# Altium footprint library eecs5x.PcbLib: 161 footprints (part 1 of 11)
Each footprint in its own frame and in the unit in brackets; x right, y up, seen from the top. Pads: shape width x height; smd on the part's side, far side on the other; paste and mask are expansions set on the pad; w line width, h text height; cw(c..) or ccw(c..) is an arc to the next point about the centre after c.
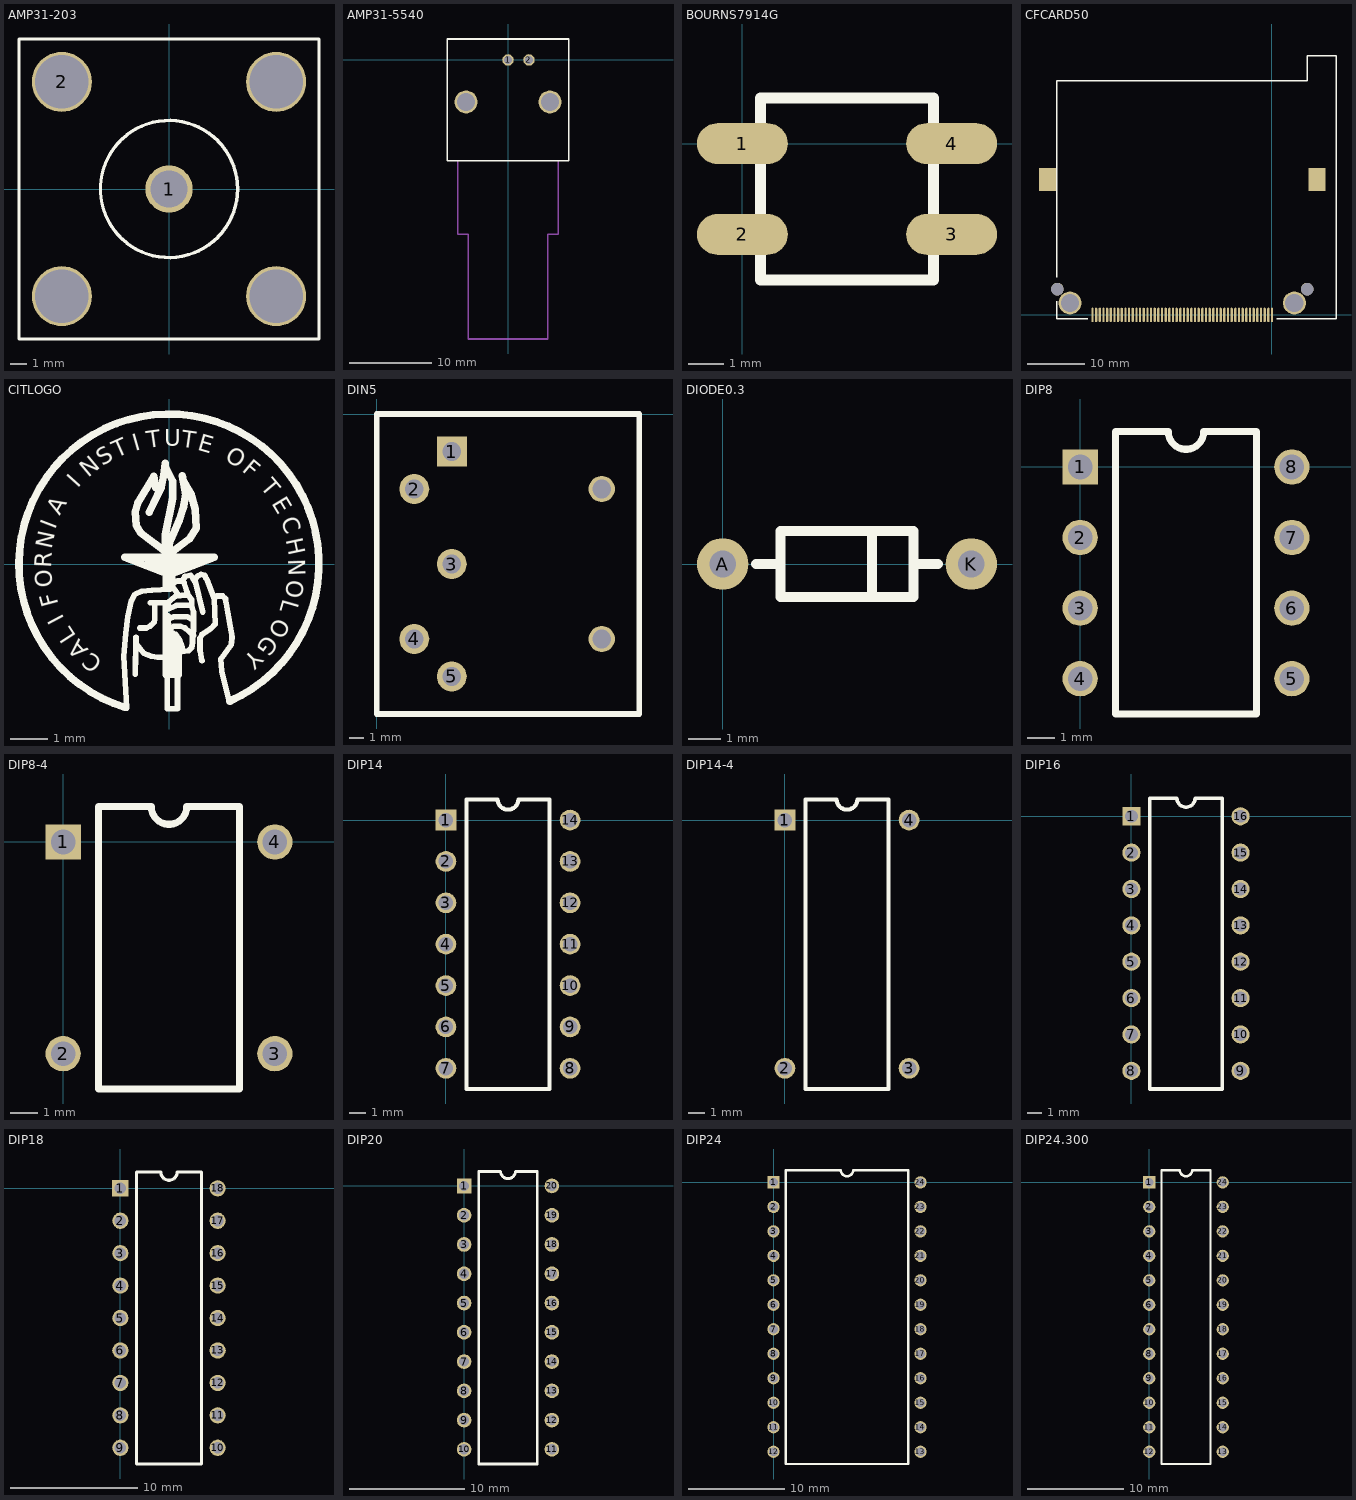
[diagram p0: the footprints below, top view; thin cyan lines are the x and y axes]

## AMP31-203 [mil]
pads (5):
  round 110 hole 86: 1(0,0)
  round 140 hole 125: 2(-250,250) ""(-250,-250) ""(250,-250) ""(250,250)
Top Overlay:
  circle w8: c0,0 r160
  lines w8: -350,-350 350,-350 350,350 -350,350 -350,-350

## AMP31-5540 [mil]
pads (4):
  round 55 hole 38: 1(0,0) 2(100,0)
  round 110 hole 86: ""(-200,-200) ""(200,-200)
Top Overlay:
  lines w8: -290,-480 -290,100 290,100 290,-480 -290,-480
Mechanical 1:
  lines w8: -240,-480 -240,-830 -190,-830 -190,-1330 190,-1330 190,-830 240,-830 240,-480

## BOURNS7914G [mil]
pads (4):
  oval 100x45 smd: 1(0,0) 2(0,-100) 3(230,-100) 4(230,0)
Top Overlay:
  lines w12: 20,-150 20,50 210,50 210,-150 20,-150

## CFCARD50 [mm]
pads (56):
  oval 0.4x2.5 smd: 1(0,0) 2(-1.27,0) 3(-2.54,0) 4(-3.81,0) 5(-5.08,0) 6(-6.35,0) 7(-7.62,0) 8(-8.89,0) 9(-10.16,0) 10(-11.43,0) 11(-12.7,0) 12(-13.97,0) 13(-15.24,0) 14(-16.51,0) 15(-17.78,0) 16(-19.05,0) 17(-20.32,0) 18(-21.59,0) 19(-22.86,0) 20(-24.13,0) 21(-25.4,0) 22(-26.67,0) 23(-27.94,0) 24(-29.21,0) 25(-30.48,0) 26(-0.635,0) 27(-1.905,0) 28(-3.175,0) 29(-4.445,0) 30(-5.715,0) 31(-6.985,0) 32(-8.255,0) 33(-9.525,0) 34(-10.795,0) 35(-12.065,0) 36(-13.335,0) 37(-14.605,0) 38(-15.875,0) 39(-17.145,0) 40(-18.415,0) 41(-19.685,0) 42(-20.955,0) 43(-22.225,0) 44(-23.495,0) 45(-24.765,0) 46(-26.035,0) 47(-27.305,0) 48(-28.575,0) 49(-29.845,0) 50(-31.115,0)
  rect 3x4 smd: ""(-38.9,23.5) ""(7.8,23.5)
  round 2.2 hole 2.184: ""(-37.2,4.47) ""(6.1,4.47)
  round 4 hole 3.175: ""(-35.01,2.07) ""(3.89,2.07)
Top Overlay:
  lines w0.254: -37.3,2.4 -37.3,-0.7 -31.9,-0.7 ; -37.3,6.5 -37.3,40.6 6.1,40.6 6.1,44.9 11.1,44.9 11.1,-0.7 0.8,-0.7

## CITLOGO [mil]
Top Overlay:
  lines w6: -45,-153 -48,-98 -46,-74 -44,-56 -40,-39 -36,-32 -29,-29 -18,-28 1,-27 ; -36,-117 -35,-78 ; -35,-85 -27,-95 -19,-98 -12,-99 -3,-99 ; -31,-68 -24,-68 -20,-66 -16,-62 -15,-59 -15,-42 ; -20,-41 -3,-41 ; -4,-60 5,-56 19,-56 26,-60 ; -4,-44 -4,-118 11,-118 11,-86 ; -3,-49 8,-44 23,-44 ; -2,-120 -2,-154 9,-154 9,-119 ; -2,-71 5,-66 12,-66 17,-68 26,-76 ; -1,-62 0,-67 ; -1,-56 -1,-55 ; -1,-45 -1,-41 7,-34 19,-33 ; 0,-80 4,-86 ; 1,-76 9,-85 ; 2,-72 7,-75 11,-80 14,-89 ; 5,-26 10,-33 ; 5,-20 9,-18 14,-18 16,-15 17,-13 23,-12 27,-18 30,-13 34,-11 38,-12 39,-15 ; 13,-93 21,-92 24,-89 25,-83 25,-77 26,-70 26,-51 24,-45 24,-38 20,-32 16,-20 ; 28,-18 36,-51 ; 35,-103 33,-92 33,-79 35,-75 44,-69 49,-64 48,-37 40,-16 ; 49,-36 51,-34 ; 53,-34 57,-34 60,-37 61,-42 65,-66 67,-78 66,-86 55,-101 56,-114 64,-146
  lines w8: -46.61,-152.45 cw(c0,0) 64.84,-145.63 ; -22,1 25,1 ; -21,55 -8,82 -5,98 -4,107 ; -14,81 -16,93 -33,65 -36,55 -35,41 -30,33 -1,11 ; -13,-5 12,-5 ; -4,15 -4,31 4,70 4,88 -4,104 ; -3,-9 -3,-25 3,-25 3,-12 ; -2,-86 11,-86 ; 0,-11 -47,7 48,7 1,-11 ; 0,15 1,24 11,47 15,59 18,74 14,94 ; 1,11 22,27 29,38 28,58 23,75 15,89 ; 3,-114 3,-86 ; 6,-113 6,-86
  text "T" at -22.35,123.09 h18
  text "U" at -5,125 h18
  text "T" at 12.45,124.48 h18
  text "E" at 29.65,121.54 h18
  text "F" at 76.52,98.97 h18
  text "T" at -55.41,112.16 h18
  text "S" at -70.48,103.36 h18
  text "O" at 113.45,-56.12 h18
  text "O" at 125.54,-16.13 h18
  text "G" at 103,-74 h18
  text "Y" at 89,-90 h18
  text "T" at 96.7,81.66 h18
  text "E" at 108.86,64.58 h18
  text "C" at 118.02,45.73 h18
  text "H" at 123.95,25.62 h18
  text "N" at 126.48,4.82 h18
  text "L" at 121.16,-36.63 h18
  text "O" at 58,111 h18
  text "I" at -36,120 h18
  text "N" at -86,91 h18
  text "I" at -97,80 h18
  text "A" at -84.68,-91.35 h18
  text "N" at -124.49,15.23 h18
  text "R" at -125.18,-4.42 h18
  text "O" at -122.79,-23.94 h18
  text "F" at -117.38,-42.84 h18
  text "L" at -98.09,-76.97 h18
  text "C" at -69.19,-103.46 h18
  text "I" at -121,36 h18
  text "A" at -116,51 h18
  text "I" at -111,-58 h18

## DIN5 [mil]
pads (7):
  rect 80x80 hole 50: 1(200,-100)
  round 80 hole 50: 2(100,-200) 3(200,-400) 4(100,-600) 5(200,-700)
  round 70 hole 50: ""(600,-600) ""(600,-200)
Top Overlay:
  lines w15: 0,-800 0,0 700,0 700,-800 0,-800

## DIODE0.3 [mil]
pads (2):
  round 62 hole 32: A(0,0) K(300,0)
Top Overlay:
  lines w12: 40,0 70,0 ; 180,-40 180,40 ; 230,0 260,0 ; 70,-40 70,40 230,40 230,-40 70,-40

## DIP8 [mil]
pads (8):
  rect 50x50 hole 35: 1(0,0)
  round 50 hole 35: 2(0,-100) 3(0,-200) 4(0,-300) 5(300,-300) 6(300,-200) 7(300,-100) 8(300,0)
Top Overlay:
  lines w10: 50,-350 50,50 125,50 ccw(c150,50) 175,50 250,50 250,-350 50,-350

## DIP8-4 [mil]
pads (4):
  rect 50x50 hole 35: 1(0,0)
  round 50 hole 35: 2(0,-300) 3(300,-300) 4(300,0)
Top Overlay:
  lines w10: 50,-350 50,50 125,50 ccw(c150,50) 175,50 250,50 250,-350 50,-350

## DIP14 [mil]
pads (14):
  rect 50x50 hole 35: 1(0,0)
  round 50 hole 35: 2(0,-100) 3(0,-200) 4(0,-300) 5(0,-400) 6(0,-500) 7(0,-600) 8(300,-600) 9(300,-500) 10(300,-400) 11(300,-300) 12(300,-200) 13(300,-100) 14(300,0)
Top Overlay:
  lines w10: 50,-650 50,50 125,50 ccw(c150,50) 175,50 250,50 250,-650 50,-650

## DIP14-4 [mil]
pads (4):
  rect 50x50 hole 35: 1(0,0)
  round 50 hole 35: 2(0,-600) 3(300,-600) 4(300,0)
Top Overlay:
  lines w10: 50,-650 50,50 125,50 ccw(c150,50) 175,50 250,50 250,-650 50,-650

## DIP16 [mil]
pads (16):
  rect 50x50 hole 35: 1(0,0)
  round 50 hole 35: 2(0,-100) 3(0,-200) 4(0,-300) 5(0,-400) 6(0,-500) 7(0,-600) 8(0,-700) 9(300,-700) 10(300,-600) 11(300,-500) 12(300,-400) 13(300,-300) 14(300,-200) 15(300,-100) 16(300,0)
Top Overlay:
  lines w10: 50,-750 50,50 125,50 ccw(c150,50) 175,50 250,50 250,-750 50,-750

## DIP18 [mil]
pads (18):
  rect 50x50 hole 35: 1(0,0)
  round 50 hole 35: 2(0,-100) 3(0,-200) 4(0,-300) 5(0,-400) 6(0,-500) 7(0,-600) 8(0,-700) 9(0,-800) 10(300,-800) 11(300,-700) 12(300,-600) 13(300,-500) 14(300,-400) 15(300,-300) 16(300,-200) 17(300,-100) 18(300,0)
Top Overlay:
  lines w10: 50,-850 50,50 125,50 ccw(c150,50) 175,50 250,50 250,-850 50,-850

## DIP20 [mil]
pads (20):
  rect 50x50 hole 35: 1(0,0)
  round 50 hole 35: 2(0,-100) 3(0,-200) 4(0,-300) 5(0,-400) 6(0,-500) 7(0,-600) 8(0,-700) 9(0,-800) 10(0,-900) 11(300,-900) 12(300,-800) 13(300,-700) 14(300,-600) 15(300,-500) 16(300,-400) 17(300,-300) 18(300,-200) 19(300,-100) 20(300,0)
Top Overlay:
  lines w10: 50,-950 50,50 125,50 ccw(c150,50) 175,50 250,50 250,-950 50,-950

## DIP24 [mil]
pads (24):
  rect 50x50 hole 35: 1(0,0)
  round 50 hole 35: 2(0,-100) 3(0,-200) 4(0,-300) 5(0,-400) 6(0,-500) 7(0,-600) 8(0,-700) 9(0,-800) 10(0,-900) 11(0,-1000) 12(0,-1100) 13(600,-1100) 14(600,-1000) 15(600,-900) 16(600,-800) 17(600,-700) 18(600,-600) 19(600,-500) 20(600,-400) 21(600,-300) 22(600,-200) 23(600,-100) 24(600,0)
Top Overlay:
  lines w10: 50,-1150 50,50 275,50 ccw(c300,50) 325,50 550,50 550,-1150 50,-1150

## DIP24.300 [mil]
pads (24):
  rect 50x50 hole 35: 1(0,0)
  round 50 hole 35: 2(0,-100) 3(0,-200) 4(0,-300) 5(0,-400) 6(0,-500) 7(0,-600) 8(0,-700) 9(0,-800) 10(0,-900) 11(0,-1000) 12(0,-1100) 13(300,-1100) 14(300,-1000) 15(300,-900) 16(300,-800) 17(300,-700) 18(300,-600) 19(300,-500) 20(300,-400) 21(300,-300) 22(300,-200) 23(300,-100) 24(300,0)
Top Overlay:
  lines w10: 50,-1150 50,50 125,50 ccw(c150,50) 175,50 250,50 250,-1150 50,-1150